# Altium footprint library SOD-123.PcbLib: 1 footprints
Each footprint in its own frame and in the unit in brackets; x right, y up, seen from the top. Pads: shape width x height; smd on the part's side, far side on the other; paste and mask are expansions set on the pad; w line width, h text height; cw(c..) or ccw(c..) is an arc to the next point about the centre after c.
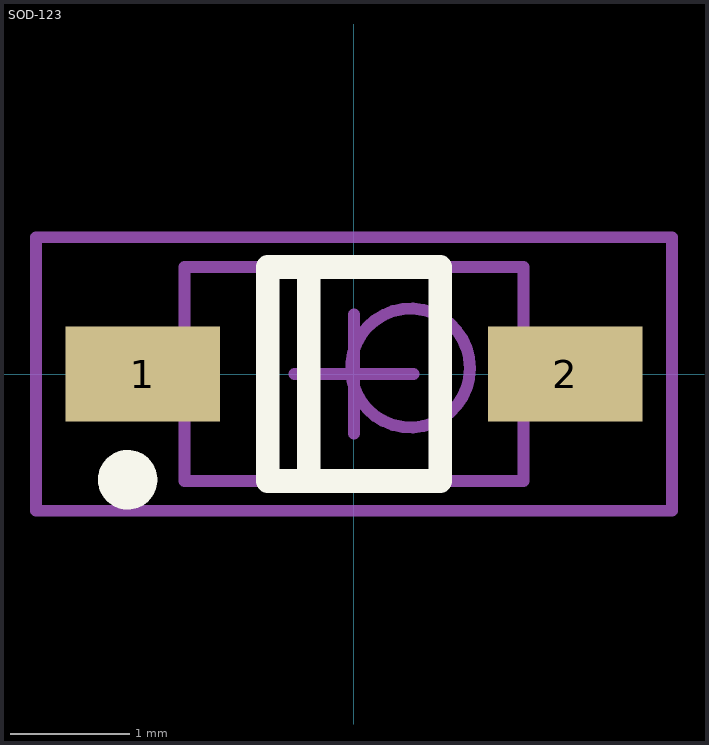
[diagram p0: the footprint, top view; thin cyan lines are the x and y axes]

## SOD-123 [mm] "TSOP, 2-Leads, Body 1.8x2.8mm (max), Pitch 1.00mm, IPC Medium Density"
height 1.168
pads (2):
  rect 1.3x0.8 smd: 1(-1.775,0) 2(1.775,0)
Top Overlay:
  circle w0.25: c-1.903,-0.889 r0.125
  lines w0.2: -0.381,-0.889 -0.381,0.889 ; -0.725,-0.9 -0.725,0.9 0.725,0.9 0.725,-0.9 -0.725,-0.9
Mechanical 13:
  circle w0.1: c0.475,0.05 r0.5
  lines w0.1: -1.425,-0.9 -1.425,0.9 1.425,0.9 1.425,-0.9 -1.425,-0.9
Mechanical 15:
  lines w0.1: -0.5,0 0.5,0 ; 0,-0.5 0,0.5 ; -2.675,-1.15 -2.675,1.15 2.675,1.15 2.675,-1.15 -2.675,-1.15
3D body: height 1.17, standoff 0.1, extent -1.425,-0.9 1.425,0.9